# Altium schematic symbol library ARCOM_RAM.SchLib: 1 symbol
Pins are listed as number, name and electrical type; pins without a type are passive.

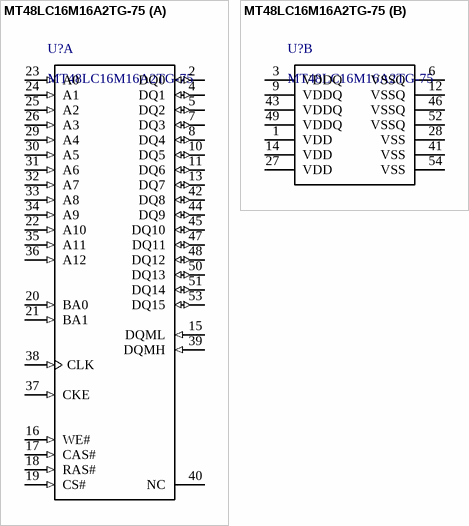
[diagram p0: symbol MT48LC16M16A2TG-75]

## MT48LC16M16A2TG-75
designator U?
256 Mbit SDR SDRAM; Manufacturer: Micron Technology, Inc.; ComponentLink1Description: Manufacturer; ComponentLink1URL: http://www.micron.com/; ComponentLink2Description: Datasheet; ComponentLink2URL: http://www.micron.com/~/media/Documents/Products/Data%20Sheet/DRAM/256Mb_sdr.pdf; Manufacturer P/N: MT48LC16M16A2TG-75; Part: MT48LC16M16A2TG-75
footprint MICT-TG-54_N (SOP, 54-Leads, Body 22.22x10.16mm, Pitch 0.8mm, IPC Medium Density)
part A pins: 2 DQ0 (io) "Data bus for x16 (pins 4, 7, 10, 13, 15, 42, 45, 48, and 51 are NC for x8; and pins 2, 4, 7, 8, 10, 13, 15, 42, 45, 47, 48, 51, and 53 are NC for x4).", 4 DQ1 (io) "Data bus for x16 (pins 4, 7, 10, 13, 15, 42, 45, 48, and 51 are NC for x8; and pins 2, 4, 7, 8, 10, 13, 15, 42, 45, 47, 48, 51, and 53 are NC for x4).", 5 DQ2 (io) "Data bus for x16 (pins 4, 7, 10, 13, 15, 42, 45, 48, and 51 are NC for x8; and pins 2, 4, 7, 8, 10, 13, 15, 42, 45, 47, 48, 51, and 53 are NC for x4).", 7 DQ3 (io) "Data bus for x16 (pins 4, 7, 10, 13, 15, 42, 45, 48, and 51 are NC for x8; and pins 2, 4, 7, 8, 10, 13, 15, 42, 45, 47, 48, 51, and 53 are NC for x4).", 8 DQ4 (io) "Data bus for x16 (pins 4, 7, 10, 13, 15, 42, 45, 48, and 51 are NC for x8; and pins 2, 4, 7, 8, 10, 13, 15, 42, 45, 47, 48, 51, and 53 are NC for x4).", 10 DQ5 (io) "Data bus for x16 (pins 4, 7, 10, 13, 15, 42, 45, 48, and 51 are NC for x8; and pins 2, 4, 7, 8, 10, 13, 15, 42, 45, 47, 48, 51, and 53 are NC for x4).", 11 DQ6 (io) "Data bus for x16 (pins 4, 7, 10, 13, 15, 42, 45, 48, and 51 are NC for x8; and pins 2, 4, 7, 8, 10, 13, 15, 42, 45, 47, 48, 51, and 53 are NC for x4).", 13 DQ7 (io) "Data bus for x16 (pins 4, 7, 10, 13, 15, 42, 45, 48, and 51 are NC for x8; and pins 2, 4, 7, 8, 10, 13, 15, 42, 45, 47, 48, 51, and 53 are NC for x4).", 15 DQML (in) "Onthe x16, DQML corresponds to DQ[7:0], and DQMH corresponds to DQ[15:8]. DQML andDQMH are considered same state when referenced as DQM", 16 WE# (in) "define the command being entered", 17 CAS# (in) "define the command being entered", 18 RAS# (in) "define the command being entered", 19 CS# (in) "CS# enables (registered LOW) and disables (registered HIGH) the command decoder. All commands are masked when CS# is registered HIGH, but READ/WRITE bursts already in progress will continue, and DQM operation will retain its (See Datasheet)", 20 BA0 (in) "BA[1:0] define to which bank the ACTIVE, READ, WRITE, or PRECHARGE command is being applied.", 21 BA1 (in) "BA[1:0] define to which bank the ACTIVE, READ, WRITE, or PRECHARGE command is being applied.", 22 A10 (in) "A[12:0] are sampled during the ACTIVE command (row address A[12:0]) andREAD or WRITE command (column address A[9:0], A11, and A12 for x4; A[9:0] and A11 for x8; A[9:0] for x16; with A10 defining auto precharge) to select one (See Datasheet)", 23 A0 (in) "A[12:0] are sampled during the ACTIVE command (row address A[12:0]) andREAD or WRITE command (column address A[9:0], A11, and A12 for x4; A[9:0] and A11 for x8; A[9:0] for x16; with A10 defining auto precharge) to select one (See Datasheet)", 24 A1 (in) "A[12:0] are sampled during the ACTIVE command (row address A[12:0]) andREAD or WRITE command (column address A[9:0], A11, and A12 for x4; A[9:0] and A11 for x8; A[9:0] for x16; with A10 defining auto precharge) to select one (See Datasheet)", 25 A2 (in) "A[12:0] are sampled during the ACTIVE command (row address A[12:0]) andREAD or WRITE command (column address A[9:0], A11, and A12 for x4; A[9:0] and A11 for x8; A[9:0] for x16; with A10 defining auto precharge) to select one (See Datasheet)", 26 A3 (in) "A[12:0] are sampled during the ACTIVE command (row address A[12:0]) andREAD or WRITE command (column address A[9:0], A11, and A12 for x4; A[9:0] and A11 for x8; A[9:0] for x16; with A10 defining auto precharge) to select one (See Datasheet)", 29 A4 (in) "A[12:0] are sampled during the ACTIVE command (row address A[12:0]) andREAD or WRITE command (column address A[9:0], A11, and A12 for x4; A[9:0] and A11 for x8; A[9:0] for x16; with A10 defining auto precharge) to select one (See Datasheet)", 30 A5 (in) "A[12:0] are sampled during the ACTIVE command (row address A[12:0]) andREAD or WRITE command (column address A[9:0], A11, and A12 for x4; A[9:0] and A11 for x8; A[9:0] for x16; with A10 defining auto precharge) to select one (See Datasheet)", 31 A6 (in) "A[12:0] are sampled during the ACTIVE command (row address A[12:0]) andREAD or WRITE command (column address A[9:0], A11, and A12 for x4; A[9:0] and A11 for x8; A[9:0] for x16; with A10 defining auto precharge) to select one (See Datasheet)", 32 A7 (in) "A[12:0] are sampled during the ACTIVE command (row address A[12:0]) andREAD or WRITE command (column address A[9:0], A11, and A12 for x4; A[9:0] and A11 for x8; A[9:0] for x16; with A10 defining auto precharge) to select one (See Datasheet)", 33 A8 (in) "A[12:0] are sampled during the ACTIVE command (row address A[12:0]) andREAD or WRITE command (column address A[9:0], A11, and A12 for x4; A[9:0] and A11 for x8; A[9:0] for x16; with A10 defining auto precharge) to select one (See Datasheet)", 34 A9 (in) "A[12:0] are sampled during the ACTIVE command (row address A[12:0]) andREAD or WRITE command (column address A[9:0], A11, and A12 for x4; A[9:0] and A11 for x8; A[9:0] for x16; with A10 defining auto precharge) to select one (See Datasheet)", 35 A11 (in) "A[12:0] are sampled during the ACTIVE command (row address A[12:0]) andREAD or WRITE command (column address A[9:0], A11, and A12 for x4; A[9:0] and A11 for x8; A[9:0] for x16; with A10 defining auto precharge) to select one (See Datasheet)", 36 A12 (in) "A[12:0] are sampled during the ACTIVE command (row address A[12:0]) andREAD or WRITE command (column address A[9:0], A11, and A12 for x4; A[9:0] and A11 for x8; A[9:0] for x16; with A10 defining auto precharge) to select one (See Datasheet)", 37 CKE (in) "CKE activates (HIGH) and deactivates (LOW) the CLK signal. Deactivating theclock provides precharge power-down and SELF REFRESH operation (all banks idle), activepower-down (row active in any bank), or CLOCK SUSPEND (See Datasheet)", 38 CLK (in) "CLK is driven by the system clock. All SDRAM input signals are sampled on the positive edge of CLK. CLK also increments the internal burst counter and controls the output registers", 39 DQMH (in) "Onthe x16, DQML corresponds to DQ[7:0], and DQMH corresponds to DQ[15:8]. DQML andDQMH are considered same state when referenced as DQM", 40 NC "These should be left unconnected", 42 DQ8 (io) "Data bus for x16 (pins 4, 7, 10, 13, 15, 42, 45, 48, and 51 are NC for x8; and pins 2, 4, 7, 8, 10, 13, 15, 42, 45, 47, 48, 51, and 53 are NC for x4).", 44 DQ9 (io) "Data bus for x16 (pins 4, 7, 10, 13, 15, 42, 45, 48, and 51 are NC for x8; and pins 2, 4, 7, 8, 10, 13, 15, 42, 45, 47, 48, 51, and 53 are NC for x4).", 45 DQ10 (io) "Data bus for x16 (pins 4, 7, 10, 13, 15, 42, 45, 48, and 51 are NC for x8; and pins 2, 4, 7, 8, 10, 13, 15, 42, 45, 47, 48, 51, and 53 are NC for x4).", 47 DQ11 (io) "Data bus for x16 (pins 4, 7, 10, 13, 15, 42, 45, 48, and 51 are NC for x8; and pins 2, 4, 7, 8, 10, 13, 15, 42, 45, 47, 48, 51, and 53 are NC for x4).", 48 DQ12 (io) "Data bus for x16 (pins 4, 7, 10, 13, 15, 42, 45, 48, and 51 are NC for x8; and pins 2, 4, 7, 8, 10, 13, 15, 42, 45, 47, 48, 51, and 53 are NC for x4).", 50 DQ13 (io) "Data bus for x16 (pins 4, 7, 10, 13, 15, 42, 45, 48, and 51 are NC for x8; and pins 2, 4, 7, 8, 10, 13, 15, 42, 45, 47, 48, 51, and 53 are NC for x4).", 51 DQ14 (io) "Data bus for x16 (pins 4, 7, 10, 13, 15, 42, 45, 48, and 51 are NC for x8; and pins 2, 4, 7, 8, 10, 13, 15, 42, 45, 47, 48, 51, and 53 are NC for x4).", 53 DQ15 (io) "Data bus for x16 (pins 4, 7, 10, 13, 15, 42, 45, 48, and 51 are NC for x8; and pins 2, 4, 7, 8, 10, 13, 15, 42, 45, 47, 48, 51, and 53 are NC for x4)."
part B pins: 1 VDD (power) "+3.3V +/-0.3V.", 3 VDDQ (power) "DQ power to the die for improved noise immunity", 6 VSSQ (power) "DQ ground to the die for improved noise immunity", 9 VDDQ (power) "DQ power to the die for improved noise immunity", 12 VSSQ (power) "DQ ground to the die for improved noise immunity", 14 VDD (power) "+3.3V +/-0.3V.", 27 VDD (power) "+3.3V +/-0.3V.", 28 VSS (power) "Ground", 41 VSS (power) "Ground", 43 VDDQ (power) "DQ power to the die for improved noise immunity", 46 VSSQ (power) "DQ ground to the die for improved noise immunity", 49 VDDQ (power) "DQ power to the die for improved noise immunity", 52 VSSQ (power) "DQ ground to the die for improved noise immunity", 54 VSS (power) "Ground"